# EAGLE library part 750310035 (library Wurth_Power Magnetics_WE-POE)
WE-PoE Power over Ethernet Transformer Characteristics Flyback transformer designed for PoE PDs Input voltage: 36 V to 57 V Switching frequencies: 200–500 kHz Operating temperature: –40 ºC to +125 ºC Isolation voltage: 1.5 kVAC/1 min Different output powers and voltages available Applications PoE powered devices IP Phones WLAN Access Points Access control terminals Security cameras <https://www.we-online.com/components/media/o766301v209%20Family-POE.jpg> Details see: www.we-online.com/en/components/products/WE-POE <www.we-online.com/catalog/WE-POE/?utm_source=eagle_model&utm_medium=description_link&utm_campaign=eisos_eagle> Updated by Ella 2024-01-09 2024 (C) Wurth Elektronik
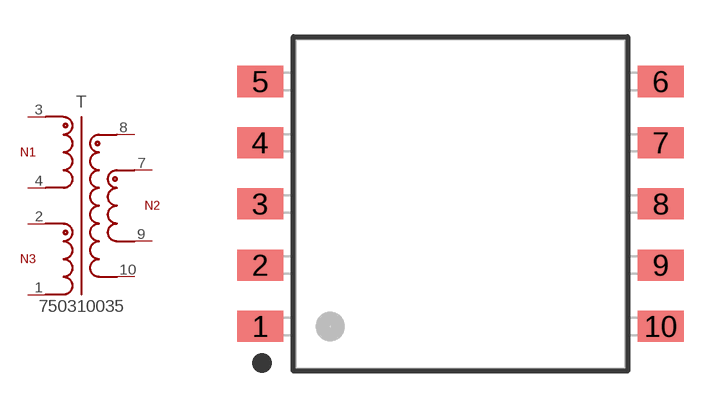
[diagram p2: symbol with the pads of WE-POE_EP13; footprint WE-POE_EP13]

Designator prefix T

## 750310035 (DATASHEET-URL: https://www.we-online.com/redexpert/spec/750310035?ae; IO1: 2.7A; L: 77.4uH; MOUNT: SMT; N: 3.67:1:2.5; PART-NUMBER: 750310035; SIZE: EP13; VALUE: 750310035; VERSION: Flyback; VIN: 33 - 57 V (DC); VO1: 5V; VT: 1500V(AC))  [WE-POE_EP13]
1  1  pas
2  2  pas
3  4  pas
4  3  pas
7  7  pas
8  8  pas
9  9  pas
10  10  pas

## Footprint WE-POE_EP13 (pad centres in mm)
WE-PoE Power over Ethernet Transformer EP13, SMT, 10Pins
smd 1.88 x 1.27: 1 -8.18,-5; 2 -8.18,-2.5; 3 -8.18,0; 4 -8.18,2.5; 5 -8.18,5; 6 8.18,5; 7 8.18,2.5; 8 8.18,0; 9 8.18,-2.5; 10 8.18,-5